# Altium footprint library SamacSys.PcbLib: 4 footprints
Each footprint in its own frame and in the unit in brackets; x right, y up, seen from the top. Pads: shape width x height; smd on the part's side, far side on the other; paste and mask are expansions set on the pad; w line width, h text height; cw(c..) or ccw(c..) is an arc to the next point about the centre after c.
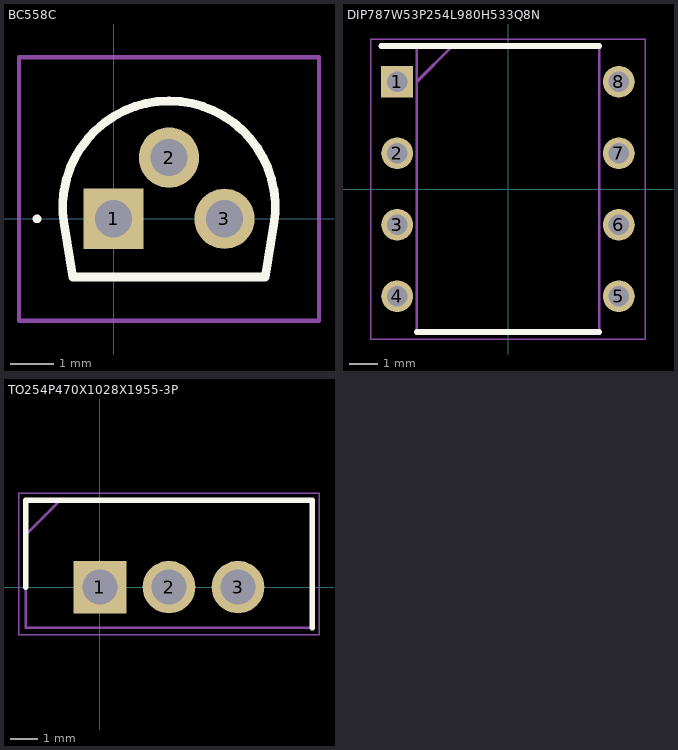
[diagram p0: the footprints below, top view; thin cyan lines are the x and y axes]

## BC558C [mm]
pads (3):
  rect 1.381x1.381 hole 0.85: 1(0,0)
  round 1.381 hole 0.85: 2(1.27,1.4) 3(2.54,0)
Top Overlay:
  lines w0.1: -1.8,0 cw(c-1.75,0) -1.7,0 cw(c-1.75,0) -1.8,0
  lines w0.2: -1.13,-0.135 -0.93,-1.335 3.47,-1.335 3.67,-0.135 ; -1.13,-0.137 cw(c1.27,0.265) 3.67,-0.132
Mechanical 13:
  lines w0.1: -1.13,-0.135 -0.93,-1.335 3.47,-1.335 3.67,-0.135 ; -1.13,-0.137 cw(c1.27,0.265) 3.67,-0.132
Mechanical 15:
  lines w0.1: -2.163,-2.335 -2.163,3.698 4.703,3.698 4.703,-2.335 -2.163,-2.335
3D body "BC558C.stp": height 0.1, standoff -5, extent -0.325,-0.323 2.865,1.723

## DIP787W53P254L980H533Q8N [mm]
pads (8):
  rect 1.13x1.13 hole 0.73: 1(-3.935,3.81)
  round 1.13 hole 0.73: 2(-3.935,1.27) 3(-3.935,-1.27) 4(-3.935,-3.81) 5(3.935,-3.81) 6(3.935,-1.27) 7(3.935,1.27) 8(3.935,3.81)
Top Overlay:
  lines w0.2: -4.5,5.075 3.24,5.075 ; -3.24,-5.075 3.24,-5.075
Mechanical 13:
  lines w0.1: -3.24,3.805 -1.97,5.075 ; -3.24,-5.075 -3.24,5.075 3.24,5.075 3.24,-5.075 -3.24,-5.075
Mechanical 15:
  lines w0.05: -4.875,-5.325 -4.875,5.325 4.875,5.325 4.875,-5.325 -4.875,-5.325
3D body "LM393N.stp": height 5.33, standoff -3.5, extent -4.068,-4.902 4.068,4.902

## PCBComponent_1 [mil]

## TO254P470X1028X1955-3P [mm]
pads (3):
  rect 1.935x1.935 hole 1.29: 1(0,0)
  round 1.935 hole 1.29: 2(2.54,0) 3(5.08,0)
Top Overlay:
  lines w0.2: -2.73,0 -2.73,3.2 7.81,3.2 7.81,-1.5
Mechanical 13:
  lines w0.1: -2.73,1.93 -1.46,3.2 ; -2.73,-1.5 7.81,-1.5 7.81,3.2 -2.73,3.2 -2.73,-1.5
Mechanical 15:
  lines w0.05: -2.98,-1.75 8.06,-1.75 8.06,3.45 -2.98,3.45 -2.98,-1.75
3D body "LM317AT_NOPB.stp": height 18.71, standoff -9.94, extent -2.54,-1.752 7.62,2.82